# Altium footprint library FSM_2017.PcbLib: 28 footprints (part 2 of 2)
Each footprint in its own frame and in the unit in brackets; x right, y up, seen from the top. Pads: shape width x height; smd on the part's side, far side on the other; paste and mask are expansions set on the pad; w line width, h text height; cw(c..) or ccw(c..) is an arc to the next point about the centre after c.
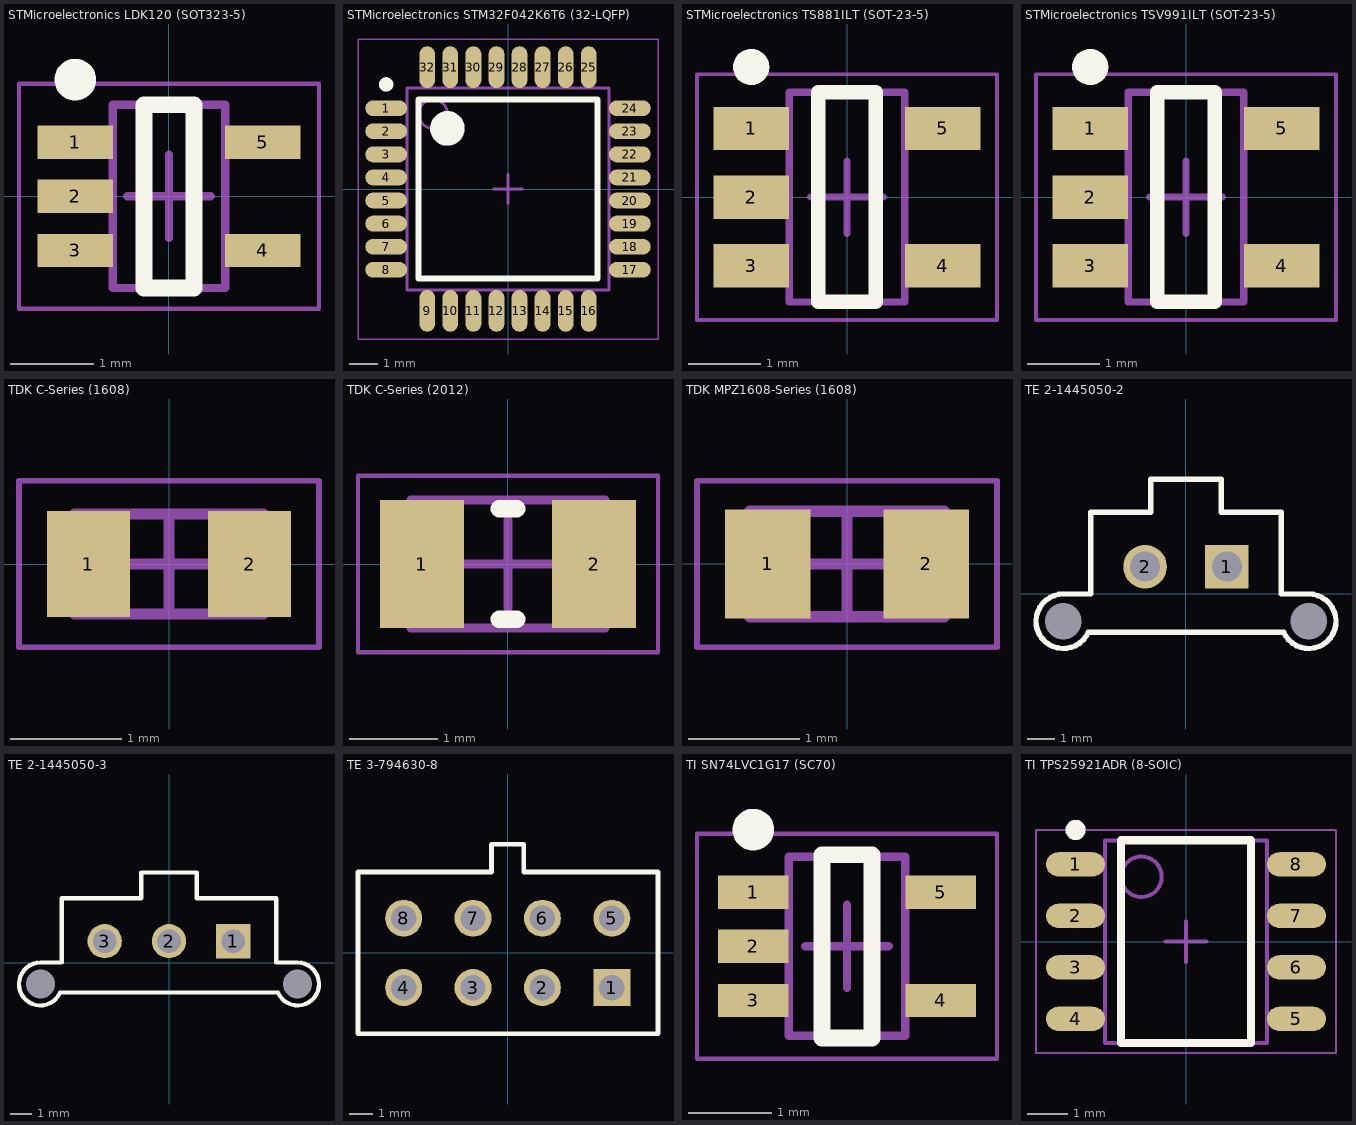
[diagram p1: the footprints below, top view; thin cyan lines are the x and y axes]

## STMicroelectronics LDK120 (SOT323-5) [mm] "200mA LDO Linear Voltage Regulator"
height 1.1
pads (5):
  rect 0.9x0.4 smd: 1(-1.125,0.65) 2(-1.125,0) 3(-1.125,-0.65) 4(1.125,-0.65) 5(1.125,0.65)
Top Overlay:
  circle w0.25: c-1.125,1.4 r0.125
  lines w0.2: -0.3,-1.1 -0.3,1.1 0.3,1.1 0.3,-1.1 -0.3,-1.1
Mechanical 13:
  lines w0.1: -0.675,-1.1 0.675,-1.1 0.675,1.1 -0.675,1.1 -0.675,-1.1
Mechanical 15:
  lines w0.05: -1.8,-1.35 1.8,-1.35 1.8,1.35 -1.8,1.35 -1.8,-1.35
  lines w0.1: -0.5,0 0.5,0 ; 0,-0.5 0,0.5
3D body: height 1.1, standoff 0, extent -0.675,-1.1 0.675,1.1

## STMicroelectronics STM32F042K6T6 (32-LQFP) [mm] "ARM Cortex-M0 48MHz Microcontroller"
height 1.6
pads (32):
  oval 1.45x0.55 smd: 1(-4.225,2.8) 2(-4.225,2) 3(-4.225,1.2) 4(-4.225,0.4) 5(-4.225,-0.4) 6(-4.225,-1.2) 7(-4.225,-2) 8(-4.225,-2.8) 17(4.225,-2.8) 18(4.225,-2) 19(4.225,-1.2) 20(4.225,-0.4) 21(4.225,0.4) 22(4.225,1.2) 23(4.225,2) 24(4.225,2.8)
  oval 0.55x1.45 smd: 9(-2.8,-4.225) 10(-2,-4.225) 11(-1.2,-4.225) 12(-0.4,-4.225) 13(0.4,-4.225) 14(1.2,-4.225) 15(2,-4.225) 16(2.8,-4.225) 25(2.8,4.225) 26(2,4.225) 27(1.2,4.225) 28(0.4,4.225) 29(-0.4,4.225) 30(-1.2,4.225) 31(-2,4.225) 32(-2.8,4.225)
Top Overlay:
  circle w0.6: c-2.1,2.1 r0.3
  circle w0.25: c-4.225,3.625 r0.125
  lines w0.2: -3.1,-3.1 3.1,-3.1 3.1,3.1 -3.1,3.1 -3.1,-3.1
Mechanical 13:
  circle w0.1: c-2.6,2.6 r0.5
  lines w0.1: -3.5,-3.5 3.5,-3.5 3.5,3.5 -3.5,3.5 -3.5,-3.5
Mechanical 15:
  lines w0.05: -5.2,-5.2 5.2,-5.2 5.2,5.2 -5.2,5.2 -5.2,-5.2
  lines w0.1: -0.5,0 0.5,0 ; 0,-0.5 0,0.5
3D body: height 1.6, standoff 0.05, extent -3.5,-3.5 3.5,3.5

## STMicroelectronics TS881ILT (SOT-23-5) [mm] "Nanopower Comparator"
height 1.45
pads (5):
  rect 1.05x0.6 smd: 1(-1.325,0.95) 2(-1.325,0) 3(-1.325,-0.95) 4(1.325,-0.95) 5(1.325,0.95)
Top Overlay:
  circle w0.25: c-1.325,1.8 r0.125
  lines w0.2: -0.4,-1.45 0.4,-1.45 0.4,1.45 -0.4,1.45 -0.4,-1.45
Mechanical 13:
  lines w0.1: -0.8,-1.45 -0.8,1.45 0.8,1.45 0.8,-1.45 -0.8,-1.45
Mechanical 15:
  lines w0.05: -2.075,-1.7 -2.075,1.7 2.075,1.7 2.075,-1.7 -2.075,-1.7
  lines w0.1: -0.5,0 0.5,0 ; 0,-0.5 0,0.5
3D body: height 1.45, standoff 0, extent -0.8,-1.45 0.8,1.45

## STMicroelectronics TSV991ILT (SOT-23-5) [mm] "20MHz Op-Amp"
height 1.45
pads (5):
  rect 1.05x0.6 smd: 1(-1.325,0.95) 2(-1.325,0) 3(-1.325,-0.95) 4(1.325,-0.95) 5(1.325,0.95)
Top Overlay:
  circle w0.25: c-1.325,1.8 r0.125
  lines w0.2: -0.4,-1.45 -0.4,1.45 0.4,1.45 0.4,-1.45 -0.4,-1.45
Mechanical 13:
  lines w0.1: -0.8,-1.45 0.8,-1.45 0.8,1.45 -0.8,1.45 -0.8,-1.45
Mechanical 15:
  lines w0.05: -2.075,-1.7 2.075,-1.7 2.075,1.7 -2.075,1.7 -2.075,-1.7
  lines w0.1: -0.5,0 0.5,0 ; 0,-0.5 0,0.5
3D body: height 1.45, standoff 0, extent -0.8,-1.45 0.8,1.45

## TDK C-Series (1608) [mm] "Multilayer Ceramic Chip Capacitor"
height 1.25
pads (2):
  rect 0.75x0.95 smd: 1(-0.725,0) 2(0.725,0)
Mechanical 13:
  lines w0.1: -0.85,-0.45 -0.85,0.45 0.85,0.45 0.85,-0.45 -0.85,-0.45
Mechanical 15:
  lines w0.05: -1.35,-0.75 -1.35,0.75 1.35,0.75 1.35,-0.75 -1.35,-0.75
  lines w0.1: -0.45,0 0.45,0 ; 0,-0.45 0,0.45
3D body: height 1.25, standoff 0, extent -0.55,-0.45 0.55,0.45
3D body: height 1.25, standoff 0, extent -0.85,-0.45 -0.55,0.45
3D body: height 1.25, standoff 0, extent 0.55,-0.45 0.85,0.45

## TDK C-Series (2012) [mm] "Multilayer Ceramic Chip Capacitor"
height 1.25
pads (2):
  rect 0.95x1.45 smd: 1(-0.975,0) 2(0.975,0)
Top Overlay:
  lines w0.2: -0.1,-0.625 0.1,-0.625 ; -0.1,0.625 0.1,0.625
Mechanical 13:
  lines w0.1: -1.1,-0.725 1.1,-0.725 1.1,0.725 -1.1,0.725 -1.1,-0.725
Mechanical 15:
  lines w0.05: -1.7,-1 1.7,-1 1.7,1 -1.7,1 -1.7,-1
  lines w0.1: -0.5,0 0.5,0 ; 0,-0.5 0,0.5
3D body: height 1.25, standoff 0, extent 0.8,-0.725 1.1,0.725
3D body: height 1.25, standoff 0, extent -1.1,-0.725 -0.8,0.725
3D body: height 1.25, standoff 0, extent -0.8,-0.725 0.8,0.725

## TDK MPZ1608-Series (1608) [mm] "Chip Ferrite Bead"
height 0.95
pads (2):
  rect 0.77x0.98 smd: 1(-0.715,0) 2(0.715,0)
Mechanical 13:
  lines w0.1: -0.875,-0.475 -0.875,0.475 0.875,0.475 0.875,-0.475 -0.875,-0.475
Mechanical 15:
  lines w0.05: -1.35,-0.75 -1.35,0.75 1.35,0.75 1.35,-0.75 -1.35,-0.75
  lines w0.1: -0.475,0 0.475,0 ; 0,-0.475 0,0.475
3D body: height 0.95, standoff 0, extent -0.575,-0.475 0.575,0.475
3D body: height 0.95, standoff 0, extent -0.875,-0.475 -0.575,0.475
3D body: height 0.95, standoff 0, extent 0.575,-0.475 0.875,0.475

## TE 2-1445050-2 [mm] "Micro MATE-N-LOK 2-Pin Female Connector"
height 9.3
pads (4):
  rect 1.6x1.6 hole 1.1: 1(1.5,1)
  round 1.6 hole 1.1: 2(-1.5,1)
  round 0 hole 1.35: ""(-4.5,-1) ""(4.5,-1)
Top Overlay:
  lines w0.2: -3.584,-1.401 cw(c-4.5,-1) -4.5,0 -3.5,0 -3.5,3 -1.3,3 -1.3,4.2 1.3,4.2 1.3,3 3.5,3 3.5,0 4.5,0 cw(c4.5,-1) 3.584,-1.401 ; -3.575,-1.4 3.575,-1.4
3D body: height 9.25, standoff -3.17, extent -4.9,-1.44 4.9,4.23

## TE 2-1445050-3 [mm] "Micro MATE-N-LOK 3-Pin Female Connector"
height 9.3
pads (5):
  rect 1.6x1.6 hole 1.1: 1(3,1)
  round 1.6 hole 1.1: 2(0,1) 3(-3,1)
  round 0 hole 1.35: ""(-6,-1) ""(6,-1)
Top Overlay:
  lines w0.2: -5.084,-1.401 cw(c-6,-1) -6,0 -5,0 -5,3 -1.3,3 -1.3,4.2 1.3,4.2 1.3,3 5,3 5,0 6,0 cw(c6,-1) 5.084,-1.401 ; -5.084,-1.4 5.084,-1.4
3D body: height 9.25, standoff -3.17, extent -6.4,-1.44 6.4,4.23

## TE 3-794630-8 [mm] "Micro MATE-N-LOK 8-Pin Female Connector"
height 9.3
pads (8):
  rect 1.6x1.6 hole 1.1: 1(4.5,-1.5)
  round 1.6 hole 1.1: 2(1.5,-1.5) 3(-1.5,-1.5) 4(-4.5,-1.5) 5(4.5,1.5) 6(1.5,1.5) 7(-1.5,1.5) 8(-4.5,1.5)
Top Overlay:
  lines w0.2: -6.475,-3.5 -6.475,3.5 -0.7,3.5 -0.7,4.7 0.7,4.7 0.7,3.5 6.5,3.5 6.5,-3.5 -6.475,-3.5
3D body: height 9.25, standoff -3.17, extent -8,-3.94 8,4.73

## TI SN74LVC1G17 (SC70) [mm] "Schmitt-Trigger Buffer"
height 1.1
pads (5):
  rect 0.85x0.4 smd: 1(-4.5,2.6) 2(-4.5,1.95) 3(-4.5,1.3) 4(-2.25,1.3) 5(-2.25,2.6)
Top Overlay:
  circle w0.25: c-4.5,3.35 r0.125
  lines w0.2: -3.675,0.85 -3.675,3.05 -3.075,3.05 -3.075,0.85 -3.675,0.85
Mechanical 13:
  lines w0.1: -4.075,0.875 -2.675,0.875 -2.675,3.025 -4.075,3.025 -4.075,0.875
Mechanical 15:
  lines w0.05: -5.175,0.6 -1.575,0.6 -1.575,3.3 -5.175,3.3 -5.175,0.6
  lines w0.1: -3.875,1.95 -2.875,1.95 ; -3.375,1.45 -3.375,2.45
3D body: height 1.1, standoff 0.1, extent -4.075,0.875 -2.675,3.025

## TI TPS25921ADR (8-SOIC) [mm] "18V Electronic Fuse"
height 1.75
pads (8):
  oval 1.45x0.6 smd: 1(-2.725,1.905) 2(-2.725,0.635) 3(-2.725,-0.635) 4(-2.725,-1.905) 5(2.725,-1.905) 6(2.725,-0.635) 7(2.725,0.635) 8(2.725,1.905)
Top Overlay:
  circle w0.25: c-2.725,2.755 r0.125
  lines w0.2: -1.6,-2.5 1.6,-2.5 1.6,2.5 -1.6,2.5 -1.6,-2.5
Mechanical 13:
  circle w0.1: c-1.1,1.6 r0.5
  lines w0.1: -2,-2.5 2,-2.5 2,2.5 -2,2.5 -2,-2.5
Mechanical 15:
  lines w0.05: -3.7,-2.75 3.7,-2.75 3.7,2.75 -3.7,2.75 -3.7,-2.75
  lines w0.1: -0.5,0 0.5,0 ; 0,-0.5 0,0.5
3D body: height 1.75, standoff 0.1, extent -2,-2.5 2,2.5